# Altium schematic symbol library self_schlib v1.8.6.SchLib: 70 symbols
Pins are listed as number, name and electrical type; pins without a type are passive.

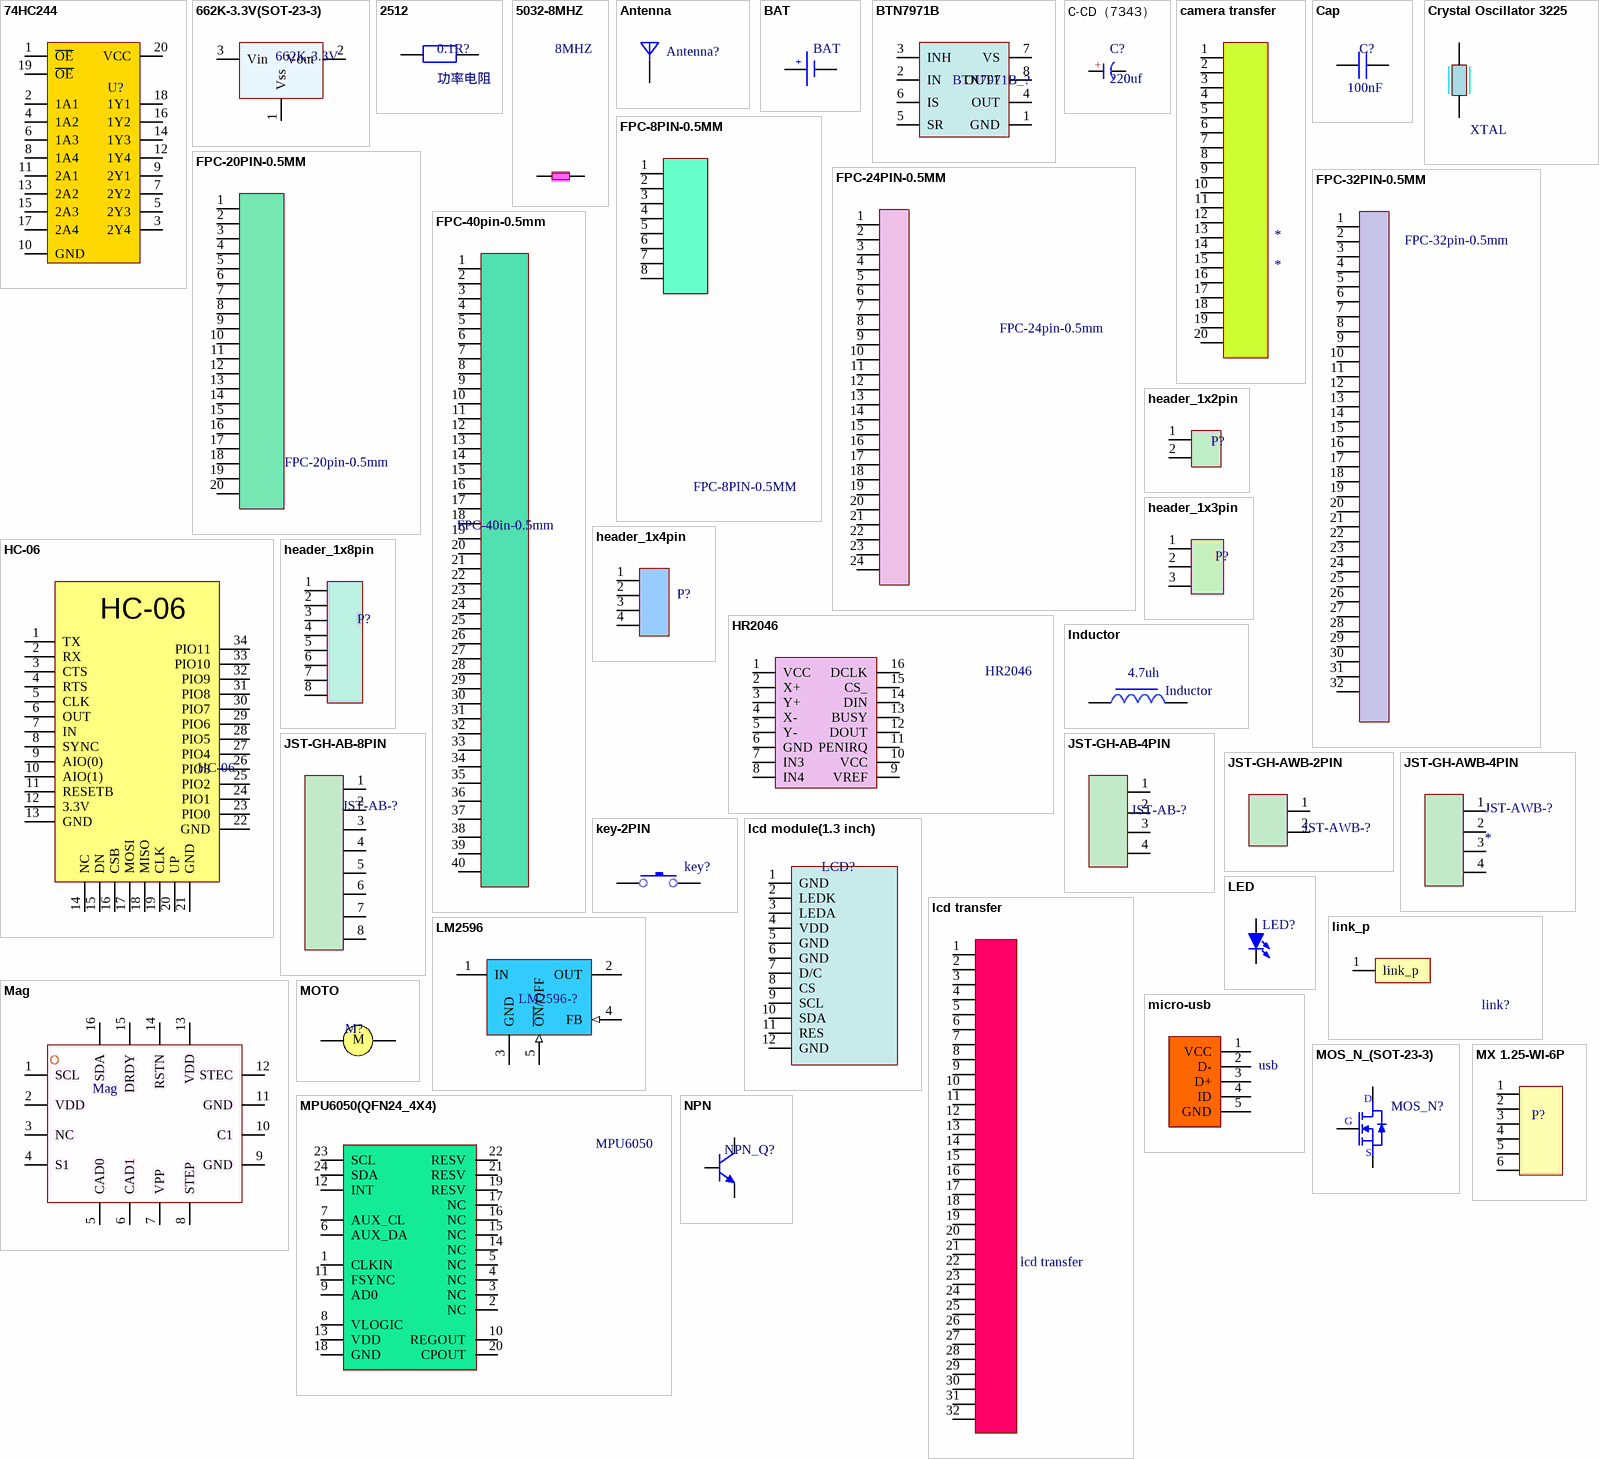
[diagram p0: symbols 74HC244 to NPN]

## 74HC244
designator U?  (value not drawn)
footprint SO-20W
pins: 1 ~{OE}, 2 1A1, 3 2Y4, 4 1A2, 5 2Y3, 6 1A3, 7 2Y2, 8 1A4, 9 2Y1, 10 GND, 11 2A1, 12 1Y4, 13 2A2, 14 1Y3, 15 2A3, 16 1Y2, 17 2A4, 18 1Y1, 19 ~{OE}, 20 VCC

## 662K-3.3V(SOT-23-3)
designator 662K-3.3V  (value not drawn)
footprint SOT-23-3
pins: 1 Vss, 2 Vout, 3 Vin

## 2512
designator 0.1R?, comment 功率电阻
footprint 2512
pins: 1, 2

## 5032-8MHZ
designator 8MHZ  (value not drawn)
footprint 5032-8MHZ
pins: 1, 3

## Antenna
designator Antenna?  (value not drawn)
footprint Antenna
footprint ANT2
pins: 1

## BAT
designator BAT  (value not drawn)
footprint BAT
pins: 1 +, 2 -

## BTN7971B
designator BTN7971B_?  (value not drawn)
footprint TO263-7
pins: 1 GND, 2 IN, 3 INH, 4 OUT, 5 SR, 6 IS, 7 VS, 8 OUT1

## C-CD（7343）
designator C?, comment 220uf
footprint C-CD（7343） (钽电容)
footprint C-CD（3528） (钽电容)
pins: 1 A, 2 K
text: +

## camera transfer
designator *
footprint camera transfer
pins: 1, 2, 3, 4, 5, 6, 7, 8, 9, 10, 11, 12, 13, 14, 15, 16, 17, 18, 19, 20

## Cap
designator C?  (value not drawn)
footprint Cap
footprint CAP-0805
footprint CAP-3216
pins: 1, 2
text: 100nF

## Crystal Oscillator 3225
designator XTAL  (value not drawn)
footprint Crystal Oscillator 3225
pins: 1, 3

## FPC-8PIN-0.5MM
designator FPC-8PIN-0.5MM  (value not drawn)
footprint FPC-8pin-0.5mm
pins: 1, 2, 3, 4, 5, 6, 7, 8

## FPC-20PIN-0.5MM
designator FPC-20pin-0.5mm  (value not drawn)
footprint FPC-20pin-0.5mm
pins: 1, 2, 3, 4, 5, 6, 7, 8, 9, 10, 11, 12, 13, 14, 15, 16, 17, 18, 19, 20

## FPC-24PIN-0.5MM
designator FPC-24pin-0.5mm
footprint FPC-24pin-0.5mm
pins: 1, 2, 3, 4, 5, 6, 7, 8, 9, 10, 11, 12, 13, 14, 15, 16, 17, 18, 19, 20, 21, 22, 23, 24

## FPC-32PIN-0.5MM
designator FPC-32pin-0.5mm
footprint FPC-32pin-0.5mm
pins: 1, 2, 3, 4, 5, 6, 7, 8, 9, 10, 11, 12, 13, 14, 15, 16, 17, 18, 19, 20, 21, 22, 23, 24, 25, 26, 27, 28, 29, 30, 31, 32

## FPC-40pin-0.5mm
designator FPC-40in-0.5mm  (value not drawn)
footprint FPC-40pin-0.5mm
pins: 1, 2, 3, 4, 5, 6, 7, 8, 9, 10, 11, 12, 13, 14, 15, 16, 17, 18, 19, 20, 21, 22, 23, 24, 25, 26, 27, 28, 29, 30, 31, 32, 33, 34, 35, 36, 37, 38, 39, 40

## HC-06
designator HC-06  (value not drawn)
footprint HC-06
pins: 1 TX (power), 2 RX (power), 3 CTS (power), 4 RTS (power), 5 CLK (power), 6 OUT (hiz), 7 IN (hiz), 8 SYNC (hiz), 9 AIO(0) (hiz), 10 AIO(1) (hiz), 11 RESETB (hiz), 12 3.3V (hiz), 13 GND (hiz), 14 NC (hiz), 15 DN (hiz), 16 CSB (hiz), 17 MOSI (hiz), 18 MISO (hiz), 19 CLK (hiz), 20 UP (hiz), 21 GND (hiz), 22 GND (hiz), 23 PIO0 (hiz), 24 PIO1 (hiz), 25 PIO2 (hiz), 26 PIO3 (hiz), 27 PIO4 (hiz), 28 PIO5 (hiz), 29 PIO6 (hiz), 30 PIO7 (hiz), 31 PIO8 (hiz), 32 PIO9 (hiz), 33 PIO10 (hiz), 34 PIO11 (hiz)

## header_1x2pin
designator P?  (value not drawn)
footprint straight-1x2pin
footprint straight-1x2pin - duplicate
footprint winding_1x2pin
footprint straight-1x2pin - duplicate1
pins: 1, 2

## header_1x3pin
designator P?, comment header_1x2pin  (value not drawn)
footprint straight-1x3pin - duplicate
footprint straight-1x3pin - duplicate1
footprint winding_1x3pin
footprint straight-1x3pin
pins: 1, 2, 3

## header_1x4pin
designator P?  (value not drawn)
footprint straight-1x4pin
footprint straight-1x4pin - duplicate
pins: 1, 2, 3, 4

## header_1x8pin
designator P?, comment header_1x2pin  (value not drawn)
footprint straight-1x8pin
footprint straight-1x8pin - duplicate
footprint winding_1x8pin
pins: 1, 2, 3, 4, 5, 6, 7, 8

## HR2046
designator HR2046  (value not drawn)
footprint TSSOP16
pins: 1 VCC, 2 X+, 3 Y+, 4 X-, 5 Y-, 6 GND, 7 IN3, 8 IN4, 9 VREF, 10 VCC, 11 PENIRQ, 12 DOUT, 13 BUSY, 14 DIN, 15 CS_, 16 DCLK

## Inductor
designator Inductor  (value not drawn)
footprint CD32
footprint L-SMD-0630 (一体化成型电感)
footprint CDRH74 (7.3*7.3*4.5mm（长宽高）)
pins: 1, 2
text: 4.7uh

## JST-GH-AB-4PIN
designator JST-AB-?  (value not drawn)
footprint JST-GH-AB-4PIN (立贴)
pins: 1, 2, 3, 4

## JST-GH-AB-8PIN
designator JST-AB-?  (value not drawn)
footprint JST-GH-AB-8PIN (立贴)
pins: 1, 2, 3, 4, 5, 6, 7, 8

## JST-GH-AWB-2PIN
designator JST-AWB-?, comment JST  (value not drawn)
footprint JST-GH-AWB-2PIN
pins: 1, 2

## JST-GH-AWB-4PIN
designator JST-AWB-?
footprint JST-GH-AWB-4PIN (卧贴)
pins: 1, 2, 3, 4

## key-2PIN
designator key?  (value not drawn)
footprint KEY-2PIN
pins: 1, 2

## lcd module(1.3 inch)
designator LCD?  (value not drawn)
footprint lcd module(1.3 inch)
pins: 1 GND, 2 LEDK, 3 LEDA, 4 VDD, 5 GND, 6 GND, 7 D/C, 8 CS, 9 SCL, 10 SDA, 11 RES, 12 GND

## lcd transfer
designator lcd transfer  (value not drawn)
footprint lcd transfer
pins: 1, 2, 3, 4, 5, 6, 7, 8, 9, 10, 11, 12, 13, 14, 15, 16, 17, 18, 19, 20, 21, 22, 23, 24, 25, 26, 27, 28, 29, 30, 31, 32

## LED
designator LED?  (value not drawn)
footprint LED-0603
pins: 1, 2

## link_p
designator link?  (value not drawn)
footprint link_p (焊点)
footprint link_p_1
pins: 1 link_p

## LM2596
designator LM2596-?  (value not drawn)
footprint TO263-5A
pins: 1 IN (power), 2 OUT (power), 3 GND (power), 4 FB (in), 5 ~{ON}/OFF (in)

## Mag
designator Mag  (value not drawn)
footprint Mag (磁力计)
pins: 1 SCL, 2 VDD, 3 NC, 4 S1, 5 CAD0, 6 CAD1, 7 VPP, 8 STEP, 9 GND, 10 C1, 11 GND, 12 STEC, 13 VDD, 14 RSTN, 15 DRDY, 16 SDA

## micro-usb
designator usb  (value not drawn)
footprint USB-MICRO-1
pins: 1 VCC, 2 D-, 3 D+, 4 ID, 5 GND

## MOS_N_(SOT-23-3)
designator MOS_N?, comment MOS_N  (value not drawn)
footprint SOT-23-3
pins: 1 G, 2 S, 3 D

## MOTO
designator M?  (value not drawn)
footprint MOTO (直流电机)
pins: 1 (hiz), 2 (hiz)
text: M

## MPU6050(QFN24_4X4)
designator MPU6050, comment MPU6050  (value not drawn)
footprint QFN24_4X4
pins: 1 CLKIN, 2 NC, 3 NC, 4 NC, 5 NC, 6 AUX_DA, 7 AUX_CL, 8 VLOGIC, 9 AD0, 10 REGOUT, 11 FSYNC, 12 INT, 13 VDD, 14 NC, 15 NC, 16 NC, 17 NC, 18 GND, 19 RESV, 20 CPOUT, 21 RESV, 22 RESV, 23 SCL, 24 SDA

## MX 1.25-WI-6P
designator P?  (value not drawn)
footprint MX 1.25-WI-6P
pins: 1, 2, 3, 4, 5, 6

## NPN
designator NPN_Q?  (value not drawn)
footprint SOT-23-3
pins: 1 B, 2 E, 3 C

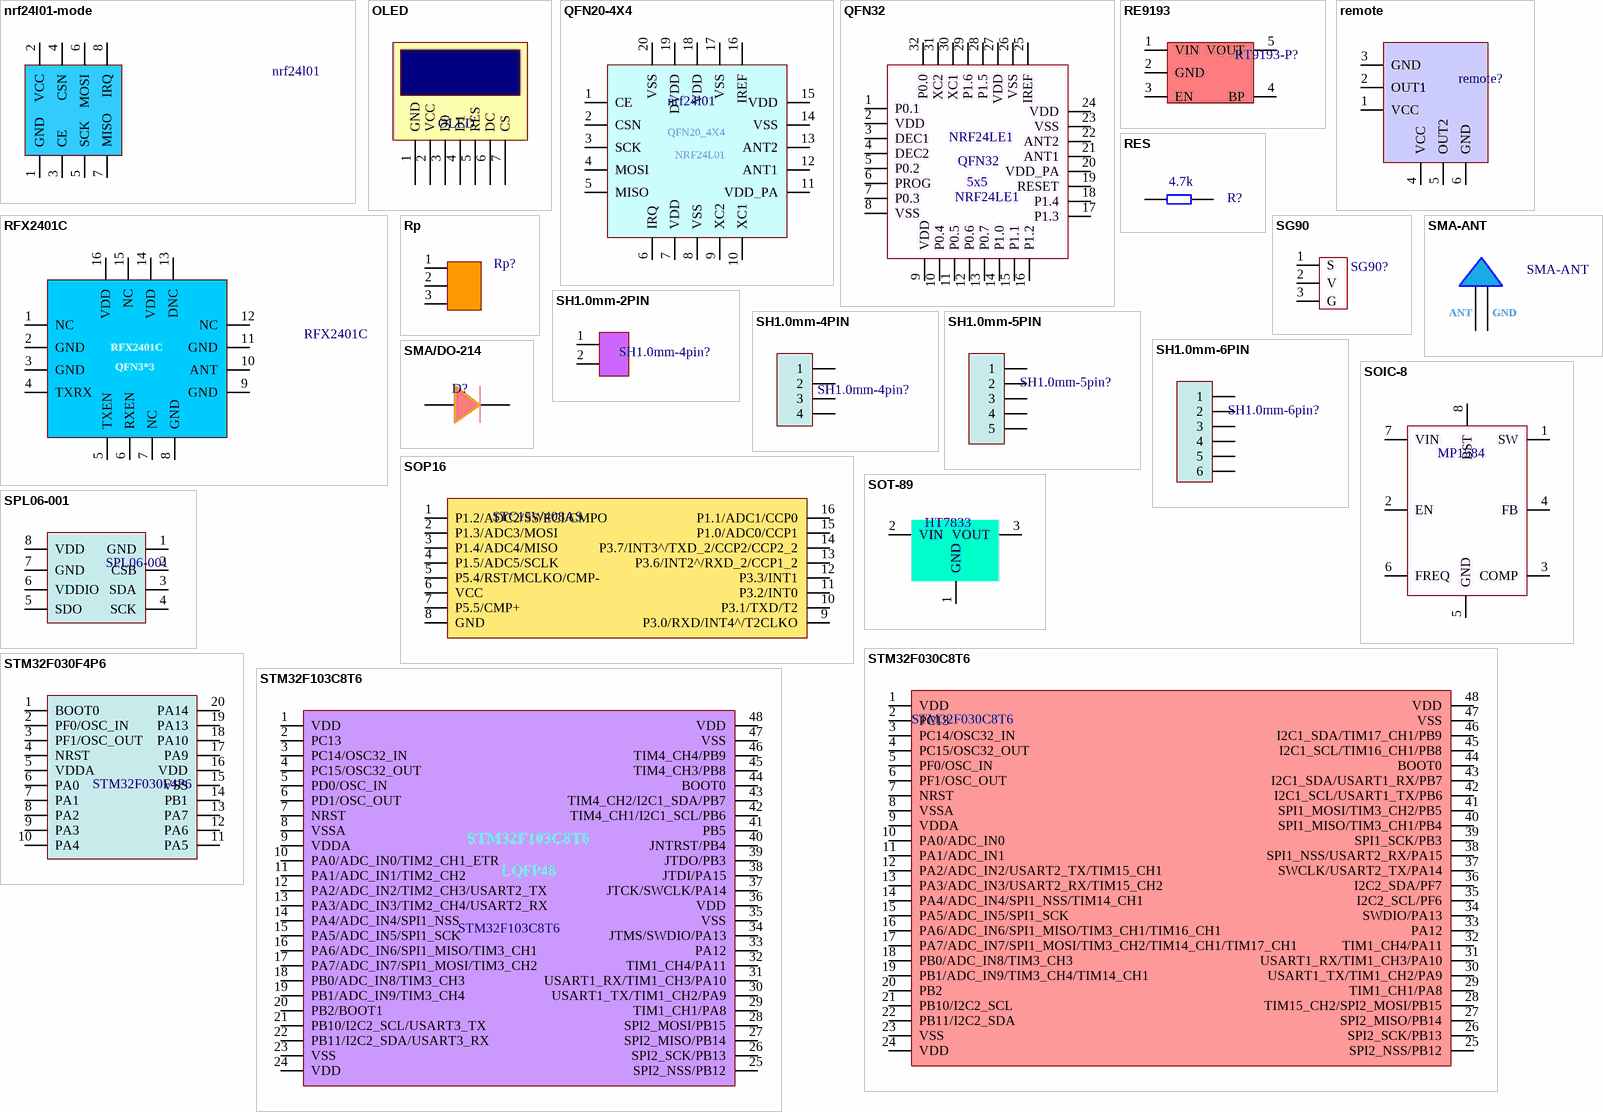
[diagram p1: symbols nrf24l01-mode to STM32F103C8T6]

## nrf24l01-mode
designator nrf24l01  (value not drawn)
footprint NRF24L01-mode
pins: 1 GND, 2 VCC, 3 CE, 4 CSN, 5 SCK, 6 MOSI, 7 MISO, 8 IRQ

## OLED
designator OLED  (value not drawn)
footprint OLED-0.96-PIN7
pins: 1 GND (hiz), 2 VCC (hiz), 3 D0 (hiz), 4 D1 (hiz), 5 RES (hiz), 6 DC (hiz), 7 CS (hiz)

## QFN20-4X4
designator nrf24l01, comment nrf24l01  (value not drawn)
footprint QFN20_4X4
pins: 1 CE, 2 CSN, 3 SCK, 4 MOSI, 5 MISO, 6 IRQ, 7 VDD, 8 VSS, 9 XC2, 10 XC1, 11 VDD_PA, 12 ANT1, 13 ANT2, 14 VSS, 15 VDD, 16 IREF, 17 VSS, 18 VDD, 19 DVDD, 20 VSS
text: QFN20_4X4; NRF24L01

## QFN32
designator NRF24LE1, comment NRF24LE1  (value not drawn)
footprint QFN32_5X5
pins: 1 P0.1, 2 VDD, 3 DEC1, 4 DEC2, 5 P0.2, 6 PROG, 7 P0.3, 8 VSS, 9 VDD, 10 P0.4, 11 P0.5, 12 P0.6, 13 P0.7, 14 P1.0, 15 P1.1, 16 P1.2, 17 P1.3, 18 P1.4, 19 RESET, 20 VDD_PA, 21 ANT1, 22 ANT2, 23 VSS, 24 VDD, 25 IREF, 26 VSS, 27 VDD, 28 P1.5, 29 P1.6, 30 XC1, 31 XC2, 32 P0.0
text: 5x5

## RE9193
designator RT9193-P?  (value not drawn)
footprint SOT-23-5
pins: 1 VIN, 2 GND, 3 EN, 4 BP, 5 VOUT

## remote
designator remote?  (value not drawn)
footprint remote
pins: 1 VCC, 2 OUT1, 3 GND, 4 VCC, 5 OUT2, 6 GND

## RES
designator R?, comment 4.7K
footprint RES-0603
pins: 1, 2
text: 4.7k

## RFX2401C
designator RFX2401C  (value not drawn)
footprint RFX2401C (QFN3*3)
pins: 1 NC, 2 GND, 3 GND, 4 TXRX, 5 TXEN, 6 RXEN, 7 NC, 8 GND, 9 GND, 10 ANT, 11 GND, 12 NC, 13 DNC, 14 VDD, 15 NC, 16 VDD
text: QFN3*3

## Rp
designator Rp?  (value not drawn)
footprint Rp - knob
pins: 1, 2, 3

## SG90
designator SG90?  (value not drawn)
footprint SG90
pins: 1 S, 2 V, 3 G

## SH1.0mm-2PIN
designator SH1.0mm-4pin?  (value not drawn)
footprint SH1.0mm-2PIN
pins: 1, 2

## SH1.0mm-4PIN
designator SH1.0mm-4pin?  (value not drawn)
footprint SH1.0mm-4PIN
pins: 1, 2, 3, 4

## SH1.0mm-5PIN
designator SH1.0mm-5pin?  (value not drawn)
footprint SH1.0MM-5PIN
pins: 1, 2, 3, 4, 5

## SH1.0mm-6PIN
designator SH1.0mm-6pin?  (value not drawn)
footprint SH1.0mm-6PIN
pins: 1, 2, 3, 4, 5, 6

## SMA-ANT
designator SMA-ANT  (value not drawn)
footprint SMA-ANT
pins: 0 GND, 1 ANT

## SMA/DO-214
designator D?  (value not drawn)
footprint SMA/DO-214
pins: 1, 2

## SOIC-8
designator MP1584  (value not drawn)
SOIC-8
footprint SOIC-8
pins: 1 SW, 2 EN, 3 COMP, 4 FB, 5 GND, 6 FREQ, 7 VIN, 8 BST

## SOP16
designator STC15W408AS, comment STC15W408AS  (value not drawn)
footprint SOP16
pins: 1 P1.2/ADC2/SS/ECI/CMPO, 2 P1.3/ADC3/MOSI, 3 P1.4/ADC4/MISO, 4 P1.5/ADC5/SCLK, 5 P5.4/RST/MCLKO/CMP-, 6 VCC, 7 P5.5/CMP+, 8 GND, 9 P3.0/RXD/INT4^/T2CLKO, 10 P3.1/TXD/T2, 11 P3.2/INT0, 12 P3.3/INT1, 13 P3.6/INT2^/RXD_2/CCP1_2, 14 P3.7/INT3^/TXD_2/CCP2/CCP2_2, 15 P1.0/ADC0/CCP1, 16 P1.1/ADC1/CCP0

## SOT-89
designator HT7833, comment HT7833  (value not drawn)
footprint SOT-89
pins: 1 GND, 2 VIN, 3 VOUT

## SPL06-001
designator SPL06-001  (value not drawn)
footprint SPL06-001 (气压计)
pins: 1 GND, 2 CSB, 3 SDA, 4 SCK, 5 SDO, 6 VDDIO, 7 GND, 8 VDD

## STM32F030C8T6
designator STM32F030C8T6  (value not drawn)
footprint STM32F030C8T6
pins: 1 VDD, 2 PC13, 3 PC14/OSC32_IN, 4 PC15/OSC32_OUT, 5 PF0/OSC_IN, 6 PF1/OSC_OUT, 7 NRST, 8 VSSA, 9 VDDA, 10 PA0/ADC_IN0, 11 PA1/ADC_IN1, 12 PA2/ADC_IN2/USART2_TX/TIM15_CH1, 13 PA3/ADC_IN3/USART2_RX/TIM15_CH2, 14 PA4/ADC_IN4/SPI1_NSS/TIM14_CH1, 15 PA5/ADC_IN5/SPI1_SCK, 16 PA6/ADC_IN6/SPI1_MISO/TIM3_CH1/TIM16_CH1, 17 PA7/ADC_IN7/SPI1_MOSI/TIM3_CH2/TIM14_CH1/TIM17_CH1, 18 PB0/ADC_IN8/TIM3_CH3, 19 PB1/ADC_IN9/TIM3_CH4/TIM14_CH1, 20 PB2, 21 PB10/I2C2_SCL, 22 PB11/I2C2_SDA, 23 VSS, 24 VDD, 25 SPI2_NSS/PB12, 26 SPI2_SCK/PB13, 27 SPI2_MISO/PB14, 28 TIM15_CH2/SPI2_MOSI/PB15, 29 TIM1_CH1/PA8, 30 USART1_TX/TIM1_CH2/PA9, 31 USART1_RX/TIM1_CH3/PA10, 32 TIM1_CH4/PA11, 33 PA12, 34 SWDIO/PA13, 35 I2C2_SCL/PF6, 36 I2C2_SDA/PF7, 37 SWCLK/USART2_TX/PA14, 38 SPI1_NSS/USART2_RX/PA15, 39 SPI1_SCK/PB3, 40 SPI1_MISO/TIM3_CH1/PB4, 41 SPI1_MOSI/TIM3_CH2/PB5, 42 I2C1_SCL/USART1_TX/PB6, 43 I2C1_SDA/USART1_RX/PB7, 44 BOOT0, 45 I2C1_SCL/TIM16_CH1/PB8, 46 I2C1_SDA/TIM17_CH1/PB9, 47 VSS, 48 VDD

## STM32F030F4P6
designator STM32F030F4P6  (value not drawn)
footprint STM32F030F4P6
pins: 1 BOOT0, 2 PF0/OSC_IN, 3 PF1/OSC_OUT, 4 NRST, 5 VDDA, 6 PA0, 7 PA1, 8 PA2, 9 PA3, 10 PA4, 11 PA5, 12 PA6, 13 PA7, 14 PB1, 15 VSS, 16 VDD, 17 PA9, 18 PA10, 19 PA13, 20 PA14

## STM32F103C8T6
designator STM32F103C8T6  (value not drawn)
footprint STM32F103C8T6
pins: 1 VDD, 2 PC13, 3 PC14/OSC32_IN, 4 PC15/OSC32_OUT, 5 PD0/OSC_IN, 6 PD1/OSC_OUT, 7 NRST, 8 VSSA, 9 VDDA, 10 PA0/ADC_IN0/TIM2_CH1_ETR, 11 PA1/ADC_IN1/TIM2_CH2, 12 PA2/ADC_IN2/TIM2_CH3/USART2_TX, 13 PA3/ADC_IN3/TIM2_CH4/USART2_RX, 14 PA4/ADC_IN4/SPI1_NSS, 15 PA5/ADC_IN5/SPI1_SCK, 16 PA6/ADC_IN6/SPI1_MISO/TIM3_CH1, 17 PA7/ADC_IN7/SPI1_MOSI/TIM3_CH2, 18 PB0/ADC_IN8/TIM3_CH3, 19 PB1/ADC_IN9/TIM3_CH4, 20 PB2/BOOT1, 21 PB10/I2C2_SCL/USART3_TX, 22 PB11/I2C2_SDA/USART3_RX, 23 VSS, 24 VDD, 25 SPI2_NSS/PB12, 26 SPI2_SCK/PB13, 27 SPI2_MISO/PB14, 28 SPI2_MOSI/PB15, 29 TIM1_CH1/PA8, 30 USART1_TX/TIM1_CH2/PA9, 31 USART1_RX/TIM1_CH3/PA10, 32 TIM1_CH4/PA11, 33 PA12, 34 JTMS/SWDIO/PA13, 35 VSS, 36 VDD, 37 JTCK/SWCLK/PA14, 38 JTDI/PA15, 39 JTDO/PB3, 40 JNTRST/PB4, 41 PB5, 42 TIM4_CH1/I2C1_SCL/PB6, 43 TIM4_CH2/I2C1_SDA/PB7, 44 BOOT0, 45 TIM4_CH3/PB8, 46 TIM4_CH4/PB9, 47 VSS, 48 VDD
text: LQFP48

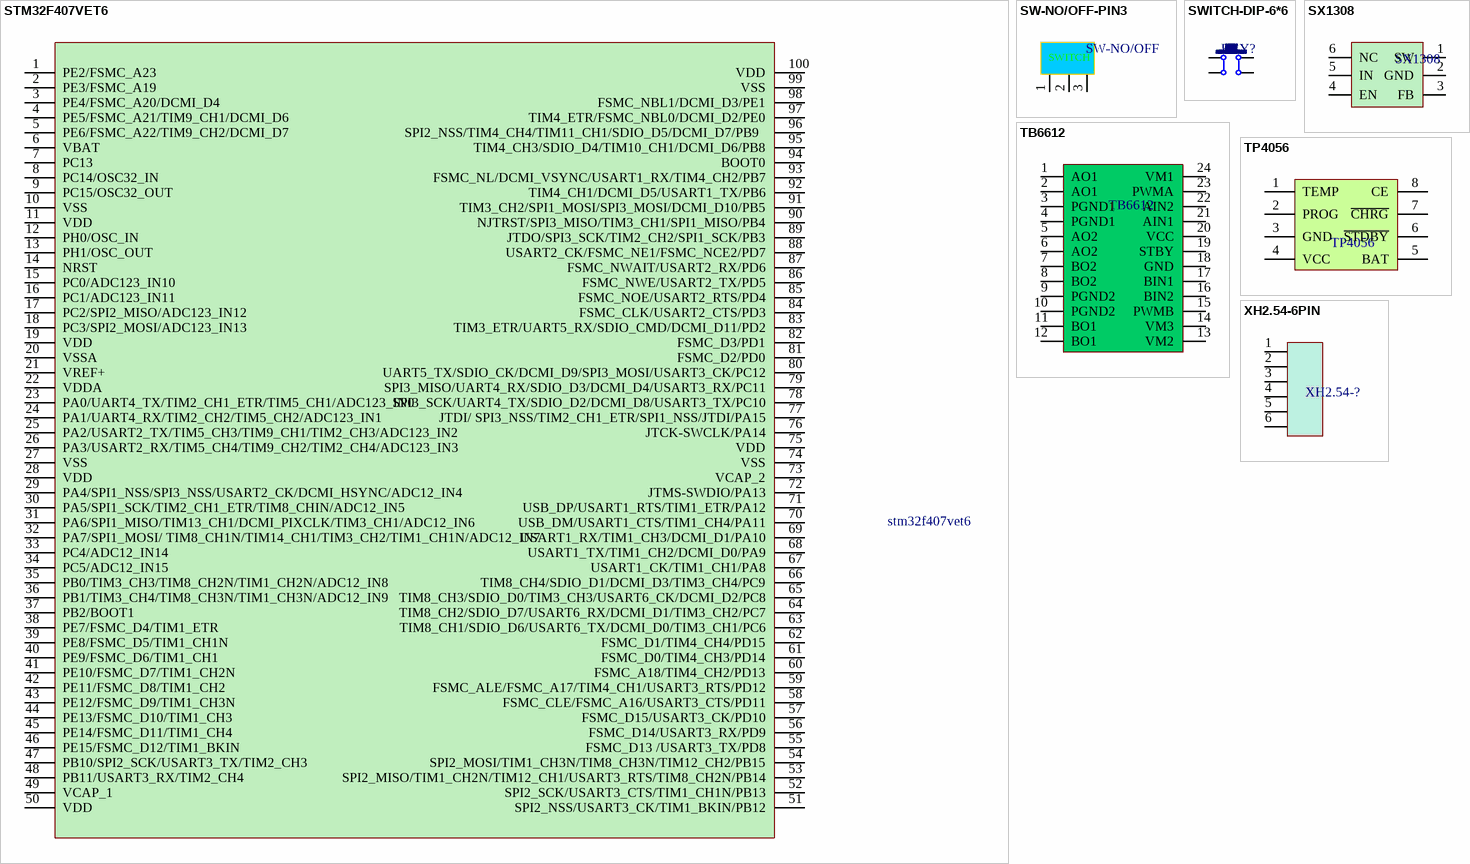
[diagram p2: symbols STM32F407VET6 to XH2.54-6PIN]

## STM32F407VET6
designator stm32f407vet6  (value not drawn)
footprint LQFP-100
pins: 1 PE2/FSMC_A23, 2 PE3/FSMC_A19, 3 PE4/FSMC_A20/DCMI_D4, 4 PE5/FSMC_A21/TIM9_CH1/DCMI_D6, 5 PE6/FSMC_A22/TIM9_CH2/DCMI_D7, 6 VBAT, 7 PC13, 8 PC14/OSC32_IN, 9 PC15/OSC32_OUT, 10 VSS, 11 VDD, 12 PH0/OSC_IN, 13 PH1/OSC_OUT, 14 NRST, 15 PC0/ADC123_IN10, 16 PC1/ADC123_IN11, 17 PC2/SPI2_MISO/ADC123_IN12, 18 PC3/SPI2_MOSI/ADC123_IN13, 19 VDD, 20 VSSA, 21 VREF+, 22 VDDA, 23 PA0/UART4_TX/TIM2_CH1_ETR/TIM5_CH1/ADC123_IN0, 24 PA1/UART4_RX/TIM2_CH2/TIM5_CH2/ADC123_IN1, 25 PA2/USART2_TX/TIM5_CH3/TIM9_CH1/TIM2_CH3/ADC123_IN2, 26 PA3/USART2_RX/TIM5_CH4/TIM9_CH2/TIM2_CH4/ADC123_IN3, 27 VSS, 28 VDD, 29 PA4/SPI1_NSS/SPI3_NSS/USART2_CK/DCMI_HSYNC/ADC12_IN4, 30 PA5/SPI1_SCK/TIM2_CH1_ETR/TIM8_CHIN/ADC12_IN5, 31 PA6/SPI1_MISO/TIM13_CH1/DCMI_PIXCLK/TIM3_CH1/ADC12_IN6, 32 PA7/SPI1_MOSI/ TIM8_CH1N/TIM14_CH1/TIM3_CH2/TIM1_CH1N/ADC12_IN7, 33 PC4/ADC12_IN14, 34 PC5/ADC12_IN15, 35 PB0/TIM3_CH3/TIM8_CH2N/TIM1_CH2N/ADC12_IN8, 36 PB1/TIM3_CH4/TIM8_CH3N/TIM1_CH3N/ADC12_IN9, 37 PB2/BOOT1, 38 PE7/FSMC_D4/TIM1_ETR, 39 PE8/FSMC_D5/TIM1_CH1N, 40 PE9/FSMC_D6/TIM1_CH1, 41 PE10/FSMC_D7/TIM1_CH2N, 42 PE11/FSMC_D8/TIM1_CH2, 43 PE12/FSMC_D9/TIM1_CH3N, 44 PE13/FSMC_D10/TIM1_CH3, 45 PE14/FSMC_D11/TIM1_CH4, 46 PE15/FSMC_D12/TIM1_BKIN, 47 PB10/SPI2_SCK/USART3_TX/TIM2_CH3, 48 PB11/USART3_RX/TIM2_CH4, 49 VCAP_1, 50 VDD, 51 SPI2_NSS/USART3_CK/TIM1_BKIN/PB12, 52 SPI2_SCK/USART3_CTS/TIM1_CH1N/PB13, 53 SPI2_MISO/TIM1_CH2N/TIM12_CH1/USART3_RTS/TIM8_CH2N/PB14, 54 SPI2_MOSI/TIM1_CH3N/TIM8_CH3N/TIM12_CH2/PB15, 55 FSMC_D13 /USART3_TX/PD8, 56 FSMC_D14/USART3_RX/PD9, 57 FSMC_D15/USART3_CK/PD10, 58 FSMC_CLE/FSMC_A16/USART3_CTS/PD11, 59 FSMC_ALE/FSMC_A17/TIM4_CH1/USART3_RTS/PD12, 60 FSMC_A18/TIM4_CH2/PD13, 61 FSMC_D0/TIM4_CH3/PD14, 62 FSMC_D1/TIM4_CH4/PD15, 63 TIM8_CH1/SDIO_D6/USART6_TX/DCMI_D0/TIM3_CH1/PC6, 64 TIM8_CH2/SDIO_D7/USART6_RX/DCMI_D1/TIM3_CH2/PC7, 65 TIM8_CH3/SDIO_D0/TIM3_CH3/USART6_CK/DCMI_D2/PC8, 66 TIM8_CH4/SDIO_D1/DCMI_D3/TIM3_CH4/PC9, 67 USART1_CK/TIM1_CH1/PA8, 68 USART1_TX/TIM1_CH2/DCMI_D0/PA9, 69 USART1_RX/TIM1_CH3/DCMI_D1/PA10, 70 USB_DM/USART1_CTS/TIM1_CH4/PA11, 71 USB_DP/USART1_RTS/TIM1_ETR/PA12, 72 JTMS-SWDIO/PA13, 73 VCAP_2, 74 VSS, 75 VDD, 76 JTCK-SWCLK/PA14, 77 JTDI/ SPI3_NSS/TIM2_CH1_ETR/SPI1_NSS/JTDI/PA15, 78 SPI3_SCK/UART4_TX/SDIO_D2/DCMI_D8/USART3_TX/PC10, 79  SPI3_MISO/UART4_RX/SDIO_D3/DCMI_D4/USART3_RX/PC11, 80 UART5_TX/SDIO_CK/DCMI_D9/SPI3_MOSI/USART3_CK/PC12, 81 FSMC_D2/PD0, 82 FSMC_D3/PD1, 83 TIM3_ETR/UART5_RX/SDIO_CMD/DCMI_D11/PD2, 84 FSMC_CLK/USART2_CTS/PD3, 85 FSMC_NOE/USART2_RTS/PD4, 86 FSMC_NWE/USART2_TX/PD5, 87 FSMC_NWAIT/USART2_RX/PD6, 88 USART2_CK/FSMC_NE1/FSMC_NCE2/PD7, 89 JTDO/SPI3_SCK/TIM2_CH2/SPI1_SCK/PB3, 90 NJTRST/SPI3_MISO/TIM3_CH1/SPI1_MISO/PB4, 91 TIM3_CH2/SPI1_MOSI/SPI3_MOSI/DCMI_D10/PB5, 92 TIM4_CH1/DCMI_D5/USART1_TX/PB6, 93 FSMC_NL/DCMI_VSYNC/USART1_RX/TIM4_CH2/PB7, 94 BOOT0, 95 TIM4_CH3/SDIO_D4/TIM10_CH1/DCMI_D6/PB8, 96 SPI2_NSS/TIM4_CH4/TIM11_CH1/SDIO_D5/DCMI_D7/PB9  , 97 TIM4_ETR/FSMC_NBL0/DCMI_D2/PE0, 98 FSMC_NBL1/DCMI_D3/PE1, 99 VSS, 100 VDD

## SW-NO/OFF-PIN3
designator SW-NO/OFF, comment SW-NO/OFF  (value not drawn)
footprint SW-NO/OFF-PIN3
footprint switch-3pin
pins: 1, 2, 3
text: SWITCH

## SWITCH-DIP-6*6
designator KEY?  (value not drawn)
footprint SWITCH-DIP-6*6*7
pins: 1, 2, 3, 4

## SX1308
designator SX1308  (value not drawn)
footprint SX1308
pins: 1 SW, 2 GND, 3 FB, 4 EN, 5 IN, 6 NC

## TB6612
designator TB6612  (value not drawn)
footprint SSOP_24PIN
pins: 1 AO1, 2 AO1, 3 PGND1, 4 PGND1, 5 AO2, 6 AO2, 7 BO2, 8 BO2, 9 PGND2, 10 PGND2, 11 BO1, 12 BO1, 13 VM2, 14 VM3, 15 PWMB, 16 BIN2, 17 BIN1, 18 GND, 19 STBY, 20 VCC, 21 AIN1, 22 AIN2, 23 PWMA, 24 VM1

## TP4056
designator TP4056  (value not drawn)
footprint TP4056
pins: 1 TEMP, 2 PROG, 3 GND, 4 VCC, 5 BAT, 6 ~{STDBY}, 7 ~{CHRG}, 8 CE

## XH2.54-6PIN
designator XH2.54-?  (value not drawn)
footprint XH2.54-6PIN
pins: 1, 2, 3, 4, 5, 6